# EAGLE library part ARDUINO_R3_SHIELD_ICSP (library Arduino-Uno-Mega)
Arduino R3 Shield Footprint w/ 6-pin (2x3) ICSP Header
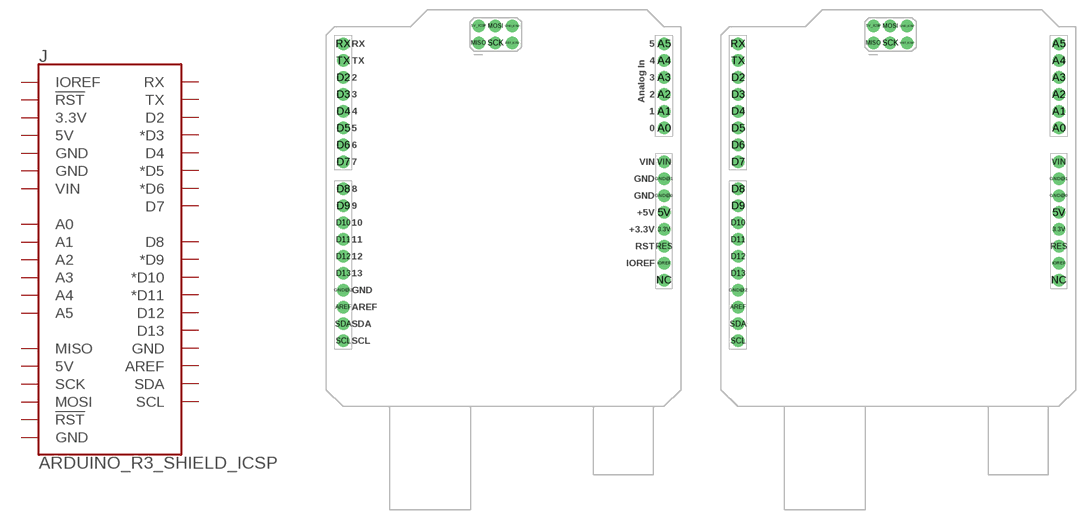
[diagram p23: symbol with the pads of UNO_R3_SHIELD_ICSP; footprints UNO_R3_SHIELD_ICSP, UNO_R3_SHIELD_ICSP_NOLABELS]

Designator prefix J

## ARDUINO_R3_SHIELD_ICSP  [UNO_R3_SHIELD_ICSP]
3.3V  3.3V
5V  5V
5V_ICSP  5V
A0  A0
A1  A1
A2  A2
A3  A3
A4  A4
A5  A5
AREF  AREF
D2  D2
D3  *D3
D4  D4
D5  *D5
D6  *D6
D7  D7
D8  D8
D9  *D9
D10  *D10
D11  *D11
D12  D12
D13  D13
GND@0  GND
GND@1  GND
GND@2  GND
GND_ICSP  GND
IOREF  IOREF
MISO  MISO
MOSI  MOSI
RES  !RST!
RST_ICSP  !RST!
RX  RX
SCK  SCK
SCL  SCL
SDA  SDA
TX  TX
VIN  VIN

## ARDUINO_R3_SHIELD_ICSP-NO_LABELS  [UNO_R3_SHIELD_ICSP_NOLABELS]
Pads as for UNO_R3_SHIELD_ICSP

## Footprint UNO_R3_SHIELD_ICSP (pad centres in mm)
drill 1.016 pad 1.88: 3.3V 50.8,26.67; 5V 50.8,29.21; 5V_ICSP 22.91,57.29; A0 50.8,41.91; A1 50.8,44.45; A2 50.8,46.99; A3 50.8,49.53; A4 50.8,52.07; A5 50.8,54.61; AREF 2.54,14.986; D2 2.54,49.53; D3 2.54,46.99; D4 2.54,44.45; D5 2.54,41.91; D6 2.54,39.37; D7 2.54,36.83; D8 2.54,32.766; D9 2.54,30.226; D10 2.54,27.686; D11 2.54,25.146; D12 2.54,22.606; D13 2.54,20.066; GND@0 50.8,31.75; GND@1 50.8,34.29; GND@2 2.54,17.526; GND_ICSP 27.99,57.29; IOREF 50.8,21.59; MISO 22.91,54.75; MOSI 25.45,57.29; NC 50.8,19.05; RES 50.8,24.13; RST_ICSP 27.99,54.75; RX 2.54,54.61; SCK 25.45,54.75; SCL 2.54,9.906; SDA 2.54,12.446; TX 2.54,52.07; VIN 50.8,36.83

## Footprint UNO_R3_SHIELD_ICSP_NOLABELS (pad centres in mm)
drill 1.016 pad 1.88: 3.3V 50.8,26.67; 5V 50.8,29.21; 5V_ICSP 22.91,57.29; A0 50.8,41.91; A1 50.8,44.45; A2 50.8,46.99; A3 50.8,49.53; A4 50.8,52.07; A5 50.8,54.61; AREF 2.54,14.986; D2 2.54,49.53; D3 2.54,46.99; D4 2.54,44.45; D5 2.54,41.91; D6 2.54,39.37; D7 2.54,36.83; D8 2.54,32.766; D9 2.54,30.226; D10 2.54,27.686; D11 2.54,25.146; D12 2.54,22.606; D13 2.54,20.066; GND@0 50.8,31.75; GND@1 50.8,34.29; GND@2 2.54,17.526; GND_ICSP 27.99,57.29; IOREF 50.8,21.59; MISO 22.91,54.75; MOSI 25.45,57.29; NC 50.8,19.05; RES 50.8,24.13; RST_ICSP 27.99,54.75; RX 2.54,54.61; SCK 25.45,54.75; SCL 2.54,9.906; SDA 2.54,12.446; TX 2.54,52.07; VIN 50.8,36.83